# Altium footprint library cc98.PcbLib: 54 footprints (part 3 of 4)
Each footprint in its own frame and in the unit in brackets; x right, y up, seen from the top. Pads: shape width x height; smd on the part's side, far side on the other; paste and mask are expansions set on the pad; w line width, h text height; cw(c..) or ccw(c..) is an arc to the next point about the centre after c.
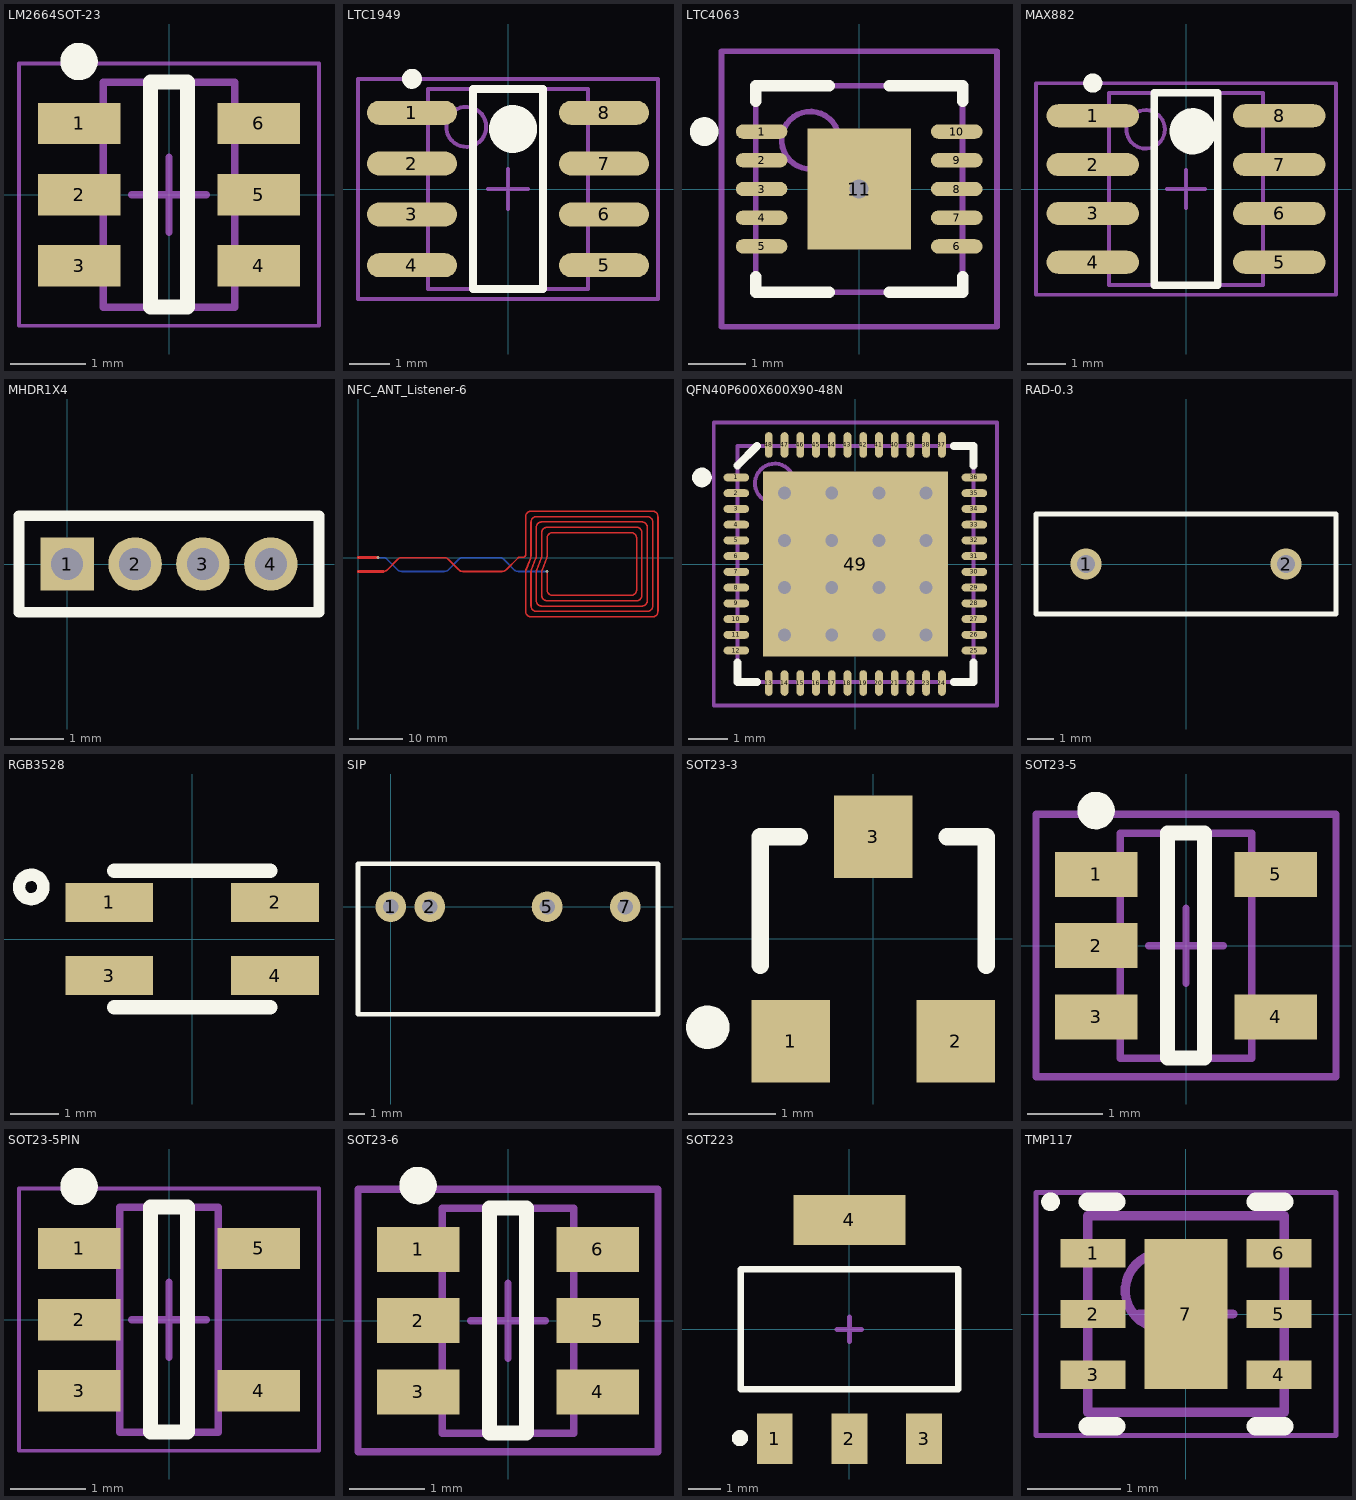
[diagram p2: the footprints below, top view; thin cyan lines are the x and y axes]

## LM2664SOT-23 [mm] "SOT23, 6-Leads, Body 2.90x2.80mm, Pitch 0.95mm, IPC Medium Density"
height 1.45
pads (6):
  rect 1.1x0.55 smd: 1(-1.2,0.95) 2(-1.2,0) 3(-1.2,-0.95) 4(1.2,-0.95) 5(1.2,0) 6(1.2,0.95)
Top Overlay:
  circle w0.25: c-1.2,1.775 r0.125
  lines w0.2: -0.25,-1.5 0.25,-1.5 0.25,1.5 -0.25,1.5 -0.25,-1.5
Mechanical 13:
  lines w0.1: -0.875,-1.5 -0.875,1.5 0.875,1.5 0.875,-1.5 -0.875,-1.5
Mechanical 15:
  lines w0.05: -2,-1.75 -2,1.75 2,1.75 2,-1.75 -2,-1.75
  lines w0.1: -0.5,0 0.5,0 ; 0,-0.5 0,0.5
3D body: height 1.45, standoff 0.05, extent -0.875,-1.5 0.875,1.5
3D body "User Library-SOT23-6-2.STEP": height 1.45, standoff 0, extent -1.431,-1.463 1.369,1.437

## LTC1949 [mm] "TSOP, 8-Leads, Body 5.0x4.0mm (max), Pitch 1.27mm, IPC Medium Density"
height 1.1
pads (8):
  oval 2.25x0.6 smd: 1(-2.4,1.905) 2(-2.4,0.635) 3(-2.4,-0.635) 4(-2.4,-1.905) 5(2.4,-1.905) 6(2.4,-0.635) 7(2.4,0.635) 8(2.4,1.905)
Top Overlay:
  circle w0.6: c0.125,1.5 r0.3
  circle w0.25: c-2.4,2.755 r0.125
  lines w0.2: -0.875,-2.5 0.875,-2.5 0.875,2.5 -0.875,2.5 -0.875,-2.5
Mechanical 13:
  circle w0.1: c-1.045,1.555 r0.5
  lines w0.1: -1.995,-2.505 1.995,-2.505 1.995,2.505 -1.995,2.505 -1.995,-2.505
Mechanical 15:
  lines w0.1: -0.5,0 0.5,0 ; 0,-0.5 0,0.5 ; -3.75,-2.75 3.75,-2.75 3.75,2.75 -3.75,2.75 -3.75,-2.75
3D body: height 1.1, standoff 0.1, extent -1.995,-2.505 1.995,2.505

## LTC4063 [mm]
height 0.8
pads (11):
  oval 0.9x0.25 smd: 1(-1.7,1) 2(-1.7,0.5) 3(-1.7,0) 4(-1.7,-0.5) 5(-1.7,-1) 6(1.7,-1) 7(1.7,-0.5) 8(1.7,0) 9(1.7,0.5) 10(1.7,1)
  rect 1.8x2.1 smd: 11(0,0)
via 0,0 diameter 0.66 hole 0.33
Top Overlay:
  circle w0.25: c-2.7,1 r0.125
  lines w0.2: -1.8,-1.525 -1.8,-1.8 -0.525,-1.8 ; -1.8,1.525 -1.8,1.8 -0.525,1.8 ; 0.525,-1.8 1.8,-1.8 1.8,-1.525 ; 0.525,1.8 1.8,1.8 1.8,1.525
Mechanical 13:
  circle w0.1: c-0.85,0.85 r0.5
  lines w0.1: -1.8,-1.8 -1.8,1.8 1.8,1.8 1.8,-1.8 -1.8,-1.8
Mechanical 15:
  lines w0.1: -0.5,0 0.5,0 ; 0,-0.5 0,0.5 ; -2.4,-2.4 -2.4,2.4 2.4,2.4 2.4,-2.4 -2.4,-2.4
3D body: height 0.8, standoff 0.05, extent -1.8,-1.8 1.8,1.8

## MAX882 [mm] "SOIC, 8-Leads, Body 5.0x4.0mm (max), Pitch 1.27mm, IPC Medium Density"
height 1.75
pads (8):
  oval 2.4x0.6 smd: 1(-2.425,1.905) 2(-2.425,0.635) 3(-2.425,-0.635) 4(-2.425,-1.905) 5(2.425,-1.905) 6(2.425,-0.635) 7(2.425,0.635) 8(2.425,1.905)
Top Overlay:
  circle w0.6: c0.175,1.5 r0.3
  circle w0.25: c-2.425,2.755 r0.125
  lines w0.2: -0.825,-2.5 0.825,-2.5 0.825,2.5 -0.825,2.5 -0.825,-2.5
Mechanical 13:
  circle w0.1: c-1.05,1.55 r0.5
  lines w0.1: -2,-2.5 2,-2.5 2,2.5 -2,2.5 -2,-2.5
Mechanical 15:
  lines w0.1: -0.5,0 0.5,0 ; 0,-0.5 0,0.5 ; -3.9,-2.75 3.9,-2.75 3.9,2.75 -3.9,2.75 -3.9,-2.75
3D body: height 1.75, standoff 0.1, extent -2,-2.5 2,2.5

## MHDR1X4 [mm] "Connector; Header; 4 Position"
height 9.6
pads (4):
  rect 1x1 hole 0.6: 1(0,0)
  round 1 hole 0.6: 2(1.27,0) 3(2.54,0) 4(3.81,0)
Top Overlay:
  lines w0.2: -0.9,-0.9 -0.9,0.9 4.71,0.9 4.71,-0.9 -0.9,-0.9

## NFC_ANT_Listener-6 [mm]
pads (2):
  round 0.1 smd paste-1 mask-1: 1(0,0) 2(0,-2.616)
via 35.23,-2.606 diameter 0.6 hole 0.3
via 3.68,-0.006 diameter 0.6 hole 0.3
Top Layer:
  lines w0.3: 4.68,-2.606 ccw(c4.68,-1.606) 5.387,-2.313 7.373,-0.298 cw(c8.08,-1.005) 8.08,-0.006 16.08,-0.006 ; 32.157,-0.12 ccw(c31.23,0.254) 32.23,0.254 32.23,6.644 cw(c33.23,6.644) 33.23,7.644 ; 32.161,-0.112 31.3,-2.299 31.276,-2.365 31.258,-2.432 31.244,-2.5 31.235,-2.569 31.23,-2.639 31.23,-2.665 31.23,-10.056 ccw(c32.23,-10.056) 32.23,-11.056 54.93,-11.056 ccw(c54.93,-10.056) 55.93,-10.056 55.93,7.644 ; 33.157,-0.12 ccw(c32.23,0.254) 33.23,0.254 33.23,5.644 cw(c34.23,5.644) 34.23,6.644 52.93,6.644 cw(c52.93,5.644) 53.93,5.644 53.93,-8.056 cw(c52.93,-8.056) 52.93,-9.056 34.23,-9.056 cw(c34.23,-8.056) 33.23,-8.056 33.23,-2.665 33.23,-2.639 33.235,-2.569 33.244,-2.5 33.258,-2.432 33.276,-2.365 33.3,-2.299 34.161,-0.112 ; 33.161,-0.112 32.3,-2.299 32.276,-2.365 32.258,-2.432 32.244,-2.5 32.235,-2.569 32.23,-2.639 32.23,-2.665 32.23,-9.056 ccw(c33.23,-9.056) 33.23,-10.056 33.23,-10.056 53.93,-10.056 ccw(c53.93,-9.056) 54.93,-9.056 54.93,6.644 ccw(c53.93,6.644) 53.93,7.644 ; 33.23,7.644 53.93,7.644 ; 34.157,-0.12 ccw(c33.23,0.254) 34.23,0.254 34.23,4.644 cw(c35.23,4.644) 35.23,5.644 51.93,5.644 cw(c51.93,4.644) 52.93,4.644 52.93,-7.056 cw(c51.93,-7.056) 51.93,-8.056 35.23,-8.056 cw(c35.23,-7.056) 34.23,-7.056 34.23,-2.665 34.23,-2.639 34.235,-2.569 34.244,-2.5 34.258,-2.432 34.276,-2.365 34.3,-2.299 35.161,-0.112 ; 35.157,-0.12 ccw(c34.23,0.254) 35.23,0.254 35.23,3.644 cw(c36.23,3.644) 36.23,4.644 50.93,4.644 ; 35.23,-2.606 35.23,-6.056 ccw(c36.23,-6.056) 36.23,-7.056 50.93,-7.056 ccw(c50.93,-6.056) 51.93,-6.056 51.93,3.644 ccw(c50.93,3.644) 50.93,4.644 ; 55.93,7.645 ccw(c54.93,7.645) 54.93,8.644 32.23,8.644 ccw(c32.23,7.645) 31.23,7.645 31.23,7.594 31.23,0.514 cw(c30.78,0.514) 30.78,0.064 30.684,0.064 30.139,0.064 30.124,0.064 ccw(c30.124,-0.4) 29.796,-0.072 27.63,-2.256 27.575,-2.31 cw(c26.874,-1.61) 26.874,-2.601 19.48,-2.606 cw(c19.48,-1.674) 18.822,-2.333 18.773,-2.284 16.787,-0.298 ccw(c16.08,-1.005) 16.08,-0.006 ; 16.08,-0.006 16.08,-0.006 ; 53.93,7.644 53.93,7.644
  lines w0.5: 0,-2.616 4.68,-2.606 ; 0,0 3.68,-0.006
Bottom Layer:
  lines w0.3: 3.68,-0.006 4.652,-0.006 ; 4.656,-0.006 cw(c4.656,-1.03) 5.38,-0.306 7.373,-2.313 ccw(c8.08,-1.606) 8.08,-2.606 ; 35.23,-2.606 29.83,-2.606 cw(c29.83,-1.606) 29.123,-2.313 27.123,-0.299 ccw(c26.416,-1.006) 26.416,-0.006 ; 8.08,-2.606 8.08,-2.606 ; 8.08,-2.606 16.08,-2.606 ccw(c16.08,-1.606) 16.787,-2.313 18.773,-0.327 18.822,-0.278 cw(c19.48,-0.937) 19.48,-0.006 26.416,-0.006 ; 26.416,-0.006 26.416,-0.006

## QFN40P600X600X90-48N [mm]
pads (49):
  oval 0.65x0.2 smd: 1(-3.025,2.2) 2(-3.025,1.8) 3(-3.025,1.4) 4(-3.025,1) 5(-3.025,0.6) 6(-3.025,0.2) 7(-3.025,-0.2) 8(-3.025,-0.6) 9(-3.025,-1) 10(-3.025,-1.4) 11(-3.025,-1.8) 12(-3.025,-2.2) 25(3.025,-2.2) 26(3.025,-1.8) 27(3.025,-1.4) 28(3.025,-1) 29(3.025,-0.6) 30(3.025,-0.2) 31(3.025,0.2) 32(3.025,0.6) 33(3.025,1) 34(3.025,1.4) 35(3.025,1.8) 36(3.025,2.2)
  oval 0.2x0.65 smd: 13(-2.2,-3.025) 14(-1.8,-3.025) 15(-1.4,-3.025) 16(-1,-3.025) 17(-0.6,-3.025) 18(-0.2,-3.025) 19(0.2,-3.025) 20(0.6,-3.025) 21(1,-3.025) 22(1.4,-3.025) 23(1.8,-3.025) 24(2.2,-3.025) 37(2.2,3.025) 38(1.8,3.025) 39(1.4,3.025) 40(1,3.025) 41(0.6,3.025) 42(0.2,3.025) 43(-0.2,3.025) 44(-0.6,3.025) 45(-1,3.025) 46(-1.4,3.025) 47(-1.8,3.025) 48(-2.2,3.025)
  rect 4.7x4.7 smd: 49(0,0)
via 1.8,-1.8 diameter 0.66 hole 0.33
via 0.6,-1.8 diameter 0.66 hole 0.33
via -0.6,-1.8 diameter 0.66 hole 0.33
via -1.8,-1.8 diameter 0.66 hole 0.33
via 1.8,-0.6 diameter 0.66 hole 0.33
via 0.6,-0.6 diameter 0.66 hole 0.33
via -0.6,-0.6 diameter 0.66 hole 0.33
via -1.8,-0.6 diameter 0.66 hole 0.33
via 1.8,0.6 diameter 0.66 hole 0.33
via 0.6,0.6 diameter 0.66 hole 0.33
via -0.6,0.6 diameter 0.66 hole 0.33
via -1.8,0.6 diameter 0.66 hole 0.33
via 1.8,1.8 diameter 0.66 hole 0.33
via 0.6,1.8 diameter 0.66 hole 0.33
via -0.6,1.8 diameter 0.66 hole 0.33
via -1.8,1.8 diameter 0.66 hole 0.33
Top Overlay:
  circle w0.25: c-3.9,2.2 r0.125
  lines w0.2: -3,-2.5 -3,-3 -2.5,-3 ; -3,2.5 -2.5,3 ; 2.5,-3 3,-3 3,-2.5 ; 2.5,3 3,3 3,2.5
Mechanical 13:
  circle w0.1: c-2.05,2.05 r0.5
  lines w0.1: -3,-3 3,-3 3,3 -3,3 -3,-3
Mechanical 15:
  lines w0.1: -0.5,0 0.5,0 ; 0,-0.5 0,0.5 ; -3.6,-3.6 3.6,-3.6 3.6,3.6 -3.6,3.6 -3.6,-3.6
3D body "User Library-QFN48.step": height 0.86, standoff -0.01, extent -3.02,-3.02 3.02,3.02

## RAD-0.3 [mm] "Radial Cap, Thru-Hole; 2 Leads; 0.3 in Pin Spacing"
height 6
pads (2):
  round 1.2 hole 0.7: 1(-3.81,0) 2(3.81,0)
Top Overlay:
  lines w0.2: -5.715,-1.905 5.715,-1.905 5.715,1.905 -5.715,1.905 -5.715,-1.905

## RGB3528 [mm]
height 9.6
pads (4):
  rect 1.8x0.8 smd: 1(-1.7,0.75) 2(1.7,0.75) 3(-1.7,-0.75) 4(1.7,-0.75)
Top Overlay:
  lines w0.254: -3.052,1.067 cw(c-3.302,1.067) -3.052,1.079
  lines w0.305: -1.6,-1.4 1.6,-1.4 ; -1.6,1.4 1.6,1.4
3D body "User Library-PLCC4RGBCT-CA LED SMD RGB.STEP": height 1.75, standoff -0.15, extent -1.734,-1.37 1.766,1.43

## SIP [mm]
height 9.6
pads (4):
  round 2 hole 1: 1(0,0) 2(2.54,0) 5(10.16,0) 7(15.24,0)
Top Overlay:
  lines w0.305: 17.348,2.8 -2.13,2.8 -2.13,-7 17.37,-7 17.37,2.8

## SOT23-3 [mm]
height 1.1
pads (3):
  rect 0.9x0.95 smd: 1(-0.95,-1.175) 2(0.95,-1.175) 3(0,1.175)
Top Overlay:
  circle w0.25: c-1.903,-1.016 r0.125
  lines w0.2: -1.3,-0.3 -1.3,1.175 -0.85,1.175 ; 0.85,1.175 1.3,1.175 1.3,-0.3
3D body "SOT23-3.STEP": height 1.2, standoff 0, extent -1.45,-1.4 1.45,1.4

## SOT23-5 [mm] "Max4173"
height 1.45
pads (5):
  rect 1.1x0.6 smd: 1(-1.2,0.95) 2(-1.2,0) 3(-1.2,-0.95) 4(1.2,-0.95) 5(1.2,0.95)
Top Overlay:
  circle w0.25: c-1.2,1.8 r0.125
  lines w0.2: -0.25,-1.5 0.25,-1.5 0.25,1.5 -0.25,1.5 -0.25,-1.5
Mechanical 13:
  lines w0.1: -0.875,-1.5 -0.875,1.5 0.875,1.5 0.875,-1.5 -0.875,-1.5
Mechanical 15:
  lines w0.1: -0.5,0 0.5,0 ; 0,-0.5 0,0.5 ; -2,-1.75 -2,1.75 2,1.75 2,-1.75 -2,-1.75
3D body "SOT23-5.STEP": height 1.2, standoff 0, extent -1.4,-1.45 1.4,1.45

## SOT23-5PIN [mm] "SOT23, 5-Leads, Body 2.90x2.80mm, Pitch 0.95mm, IPC Medium Density"
height 1.45
pads (5):
  rect 1.1x0.55 smd: 1(-1.2,0.95) 2(-1.2,0) 3(-1.2,-0.95) 4(1.2,-0.95) 5(1.2,0.95)
Top Overlay:
  circle w0.25: c-1.2,1.775 r0.125
  lines w0.2: -0.25,-1.5 0.25,-1.5 0.25,1.5 -0.25,1.5 -0.25,-1.5
Mechanical 13:
  lines w0.1: -0.655,-1.5 -0.655,1.5 0.655,1.5 0.655,-1.5 -0.655,-1.5
Mechanical 15:
  lines w0.05: -2,-1.75 -2,1.75 2,1.75 2,-1.75 -2,-1.75
  lines w0.1: -0.5,0 0.5,0 ; 0,-0.5 0,0.5
3D body: height 1.45, standoff 0.05, extent -0.655,-1.5 0.655,1.5

## SOT23-6 [mm] "Max4173"
height 1.45
pads (6):
  rect 1.1x0.6 smd: 1(-1.2,0.95) 2(-1.2,0) 3(-1.2,-0.95) 4(1.2,-0.95) 5(1.2,0) 6(1.2,0.95)
Top Overlay:
  circle w0.25: c-1.2,1.8 r0.125
  lines w0.2: -0.25,-1.5 -0.25,1.5 0.25,1.5 0.25,-1.5 -0.25,-1.5
Mechanical 13:
  lines w0.1: -0.875,-1.5 0.875,-1.5 0.875,1.5 -0.875,1.5 -0.875,-1.5
Mechanical 15:
  lines w0.1: -0.5,0 0.5,0 ; 0,-0.5 0,0.5 ; -2,-1.75 2,-1.75 2,1.75 -2,1.75 -2,-1.75
3D body "User Library-SOT-23-6.STEP": height 1.08, standoff -0.01, extent -1.194,-1.397 1.232,1.397

## SOT223 [mm]
height 1.8
pads (4):
  rect 1.1x1.55 smd: 1(-2.3,-3.375) 2(0,-3.375) 3(2.3,-3.375)
  rect 3.45x1.55 smd: 4(0,3.375)
Top Overlay:
  circle w0.25: c-3.376,-3.353 r0.125
  lines w0.2: -3.35,-1.85 -3.35,1.85 3.35,1.85 3.35,-1.85 -3.35,-1.85
Mechanical 15:
  lines w0.15: -0.381,0 0.381,0 ; 0,-0.381 0,0.381
3D body "SOT223.STEP": height 1.7, standoff 0, extent -3.25,-3.48 3.25,3.48

## TMP117 [mm] "SON, 6-Leads, Body 2.00x2.00mm, Pitch 0.65mm, Thermal Pad 1.60x0.89mm, IPC Medium Density"
height 0.8
pads (7):
  rect 0.7x0.3 smd: 1(-0.995,0.65) 2(-0.995,0) 3(-0.995,-0.65) 4(0.995,-0.65) 5(0.995,0) 6(0.995,0.65)
  rect 0.89x1.6 smd: 7(0,0)
Top Overlay:
  circle w0.1: c-1.45,1.2 r0.05
  lines w0.2: -1.05,-1.2 -0.745,-1.2 ; -1.05,1.2 -0.745,1.2 ; 0.745,-1.2 1.05,-1.2 ; 0.745,1.2 1.05,1.2
Mechanical 13:
  circle w0.1: c-0.25,0.25 r0.4
  lines w0.1: -1.05,-1.05 -1.05,1.05 1.05,1.05 1.05,-1.05 -1.05,-1.05
Mechanical 15:
  lines w0.05: -1.605,-1.3 -1.605,1.3 1.605,1.3 1.605,-1.3 -1.605,-1.3
  lines w0.1: -0.5,0 0.5,0 ; 0,-0.5 0,0.5
3D body "SON65P200X80_HS-7N.step": height 0.8, standoff 0, extent -1.13,-1.05 1.13,1.05